# Altium footprint library ESP32WROOM32.PcbLib: 1 footprints
Each footprint in its own frame and in the unit in brackets; x right, y up, seen from the top. Pads: shape width x height; smd on the part's side, far side on the other; paste and mask are expansions set on the pad; w line width, h text height; cw(c..) or ccw(c..) is an arc to the next point about the centre after c.
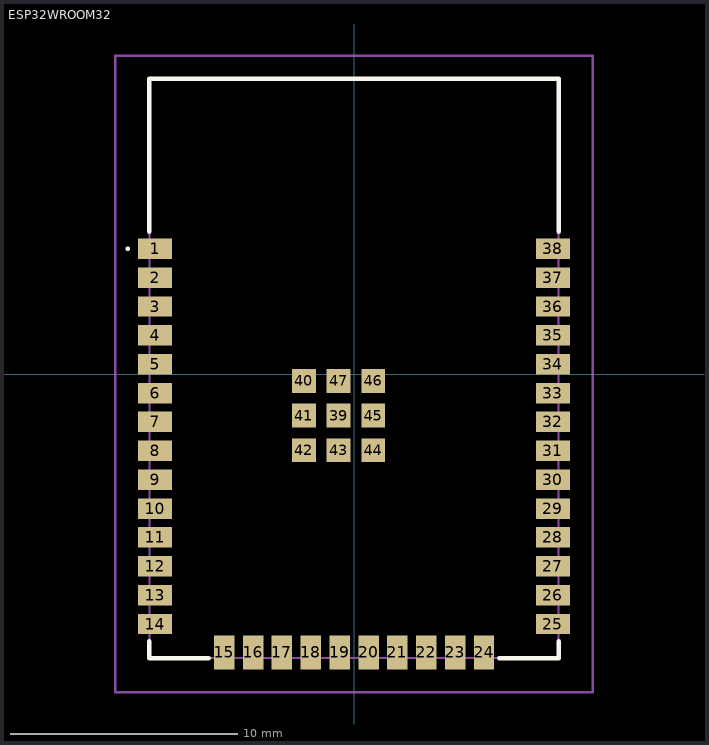
[diagram p0: the footprint, top view; thin cyan lines are the x and y axes]

## ESP32WROOM32 [mm]
pads (47):
  rect 1.5x0.9 smd: 1(-8.75,5.51) 2(-8.75,4.24) 3(-8.75,2.97) 4(-8.75,1.7) 5(-8.75,0.43) 6(-8.75,-0.84) 7(-8.75,-2.11) 8(-8.75,-3.38) 9(-8.75,-4.65) 10(-8.75,-5.92) 11(-8.75,-7.19) 12(-8.75,-8.46) 13(-8.75,-9.73) 14(-8.75,-11) 25(8.75,-11) 26(8.75,-9.73) 27(8.75,-8.46) 28(8.75,-7.19) 29(8.75,-5.92) 30(8.75,-4.65) 31(8.75,-3.38) 32(8.75,-2.11) 33(8.75,-0.84) 34(8.75,0.43) 35(8.75,1.7) 36(8.75,2.97) 37(8.75,4.24) 38(8.75,5.51)
  rect 0.9x1.5 smd: 15(-5.71,-12.25) 16(-4.44,-12.25) 17(-3.17,-12.25) 18(-1.9,-12.25) 19(-0.63,-12.25) 20(0.64,-12.25) 21(1.91,-12.25) 22(3.18,-12.25) 23(4.45,-12.25) 24(5.72,-12.25)
  rect 1.05x1.05 smd: 39(-0.68,-1.83) 40(-2.205,-0.305) 41(-2.205,-1.83) 42(-2.205,-3.355) 43(-0.68,-3.355) 44(0.845,-3.355) 45(0.845,-1.83) 46(0.845,-0.305) 47(-0.68,-0.305)
Top Overlay:
  lines w0.1: -10,5.51 -10,5.51 ; -10,5.51 ccw(c-9.95,5.51) -9.9,5.51 ; -10,5.51 cw(c-9.95,5.51) -9.9,5.51 ; -9.9,5.51 -9.9,5.51
  lines w0.2: -9,-11.75 -9,-12.5 -6.4,-12.5 ; -9,6.25 -9,13 9,13 9,6.25 ; 6.4,-12.5 9,-12.5 9,-11.75
Mechanical 15:
  lines w0.1: -9,-12.5 9,-12.5 9,13 -9,13 -9,-12.5
Mechanical 20:
  lines w0.1: -10.5,-14 10.5,-14 10.5,14 -10.5,14 -10.5,-14